# Altium schematic symbol library mcu.schlib: 18 symbols
Pins are listed as number, name and electrical type; pins without a type are passive.

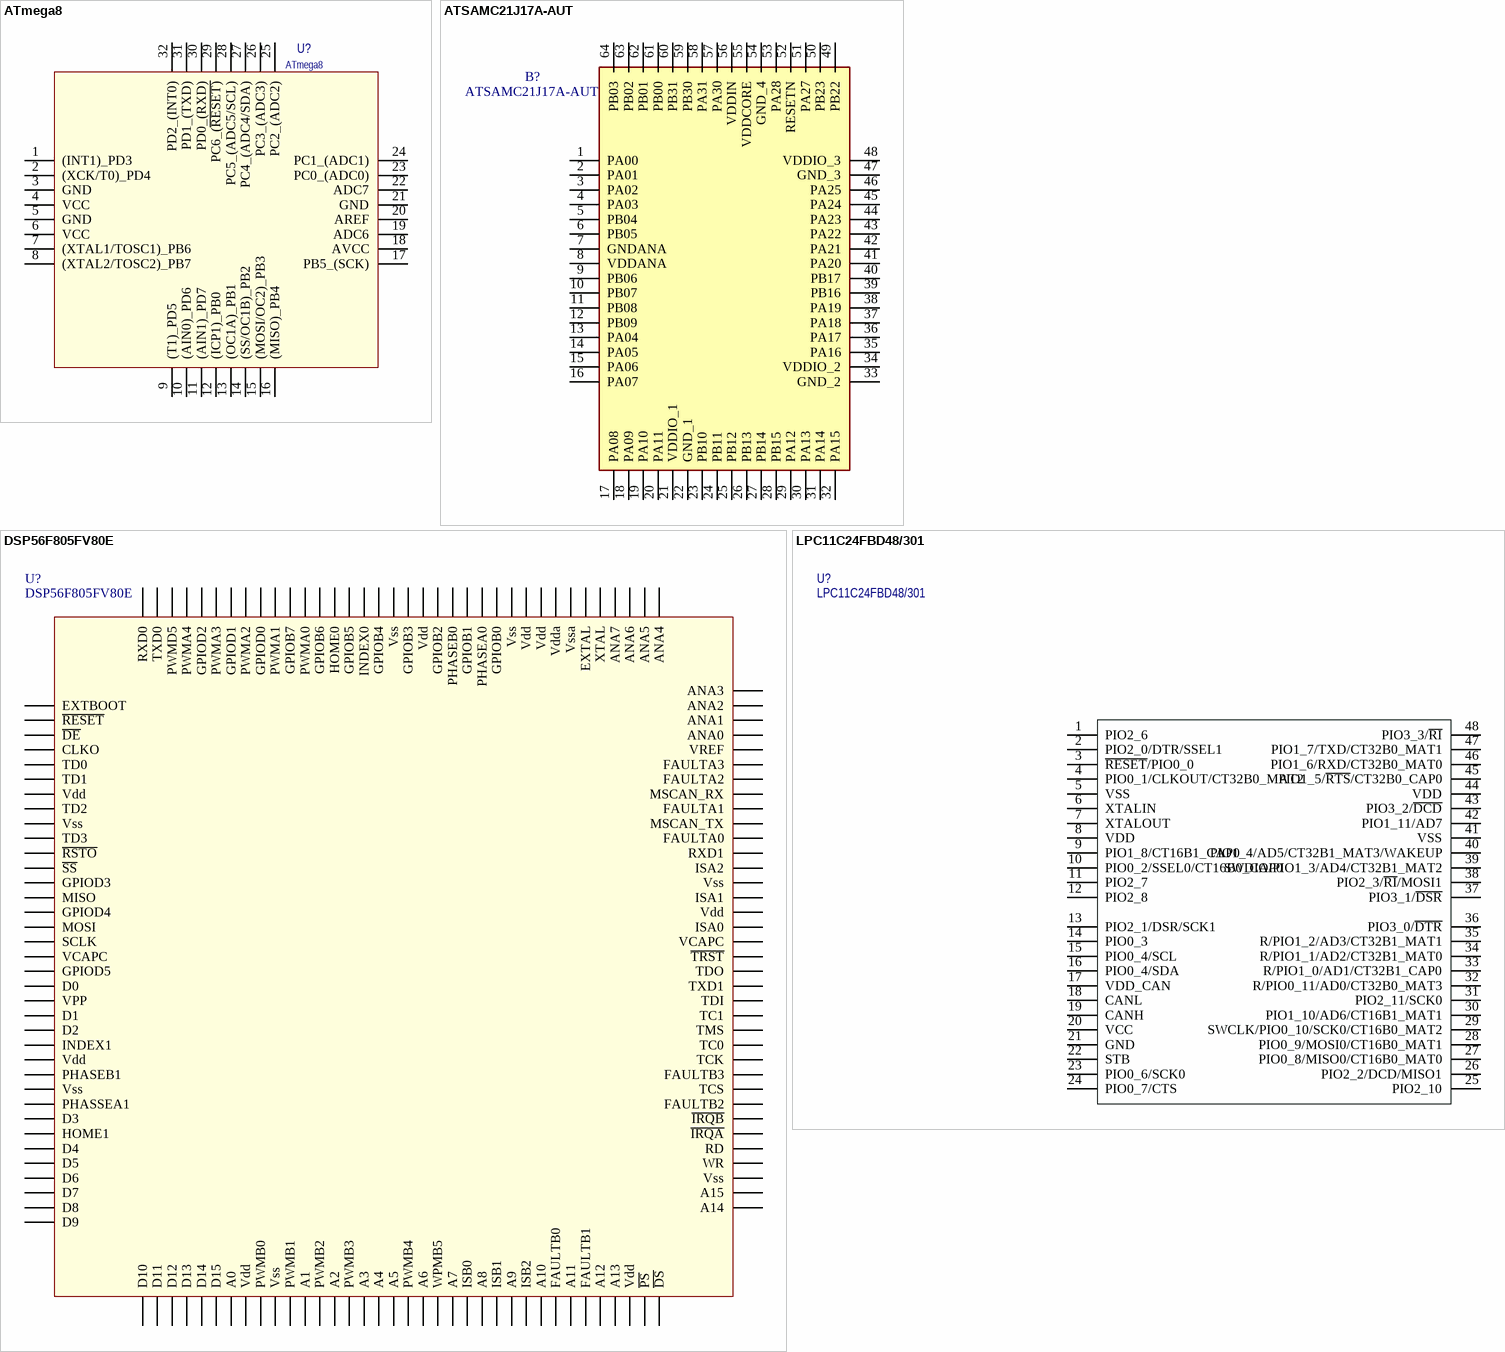
[diagram p0: symbols ATmega8 to LPC11C24FBD48/301]

## ATmega8
designator U?
Diode
footprint 32A (Thin QFP, 32-Leads, Body 7x7mm, Pitch 0.8mm, IPC Medium Density)
pins: 1 (INT1)_PD3, 2 (XCK/T0)_PD4, 3 GND, 4 VCC, 5 GND, 6 VCC, 7 (XTAL1/TOSC1)_PB6, 8 (XTAL2/TOSC2)_PB7, 9 (T1)_PD5, 10 (AIN0)_PD6, 11 (AIN1)_PD7, 12 (ICP1)_PB0, 13 (OC1A)_PB1, 14 (SS/OC1B)_PB2, 15 (MOSI/OC2)_PB3, 16 (MISO)_PB4, 17 PB5_(SCK), 18 AVCC, 19 ADC6, 20 AREF, 21 GND, 22 ADC7, 23 PC0_(ADC0), 24 PC1_(ADC1), 25 PC2_(ADC2), 26 PC3_(ADC3), 27 PC4_(ADC4/SDA), 28 PC5_(ADC5/SCL), 29 PC6_(~{RESET)}, 30 PD0_(RXD), 31 PD1_(TXD), 32 PD2_(INT0)

## ATSAMC21J17A-AUT
designator B?
ARM Microcontrollers - MCU 64TQFP,85C TEMP, GREEN, 5V, 48MHZ, T&R; Manufacturer_Name: Microchip; Geometry.Height: 1.2mm; Manufacturer_Part_Number: ATSAMC21J17A-AUT; Mouser Part Number: 556-ATSAMC21J17A-AUT; Arrow Part Number: ATSAMC21J17A-AUT
footprint QFP50P1200X1200X120-64N
pins: 1 PA00, 2 PA01, 3 PA02, 4 PA03, 5 PB04, 6 PB05, 7 GNDANA, 8 VDDANA, 9 PB06, 10 PB07, 11 PB08, 12 PB09, 13 PA04, 14 PA05, 15 PA06, 16 PA07, 17 PA08, 18 PA09, 19 PA10, 20 PA11, 21 VDDIO_1, 22 GND_1, 23 PB10, 24 PB11, 25 PB12, 26 PB13, 27 PB14, 28 PB15, 29 PA12, 30 PA13, 31 PA14, 32 PA15, 33 GND_2, 34 VDDIO_2, 35 PA16, 36 PA17, 37 PA18, 38 PA19, 39 PB16, 40 PB17, 41 PA20, 42 PA21, 43 PA22, 44 PA23, 45 PA24, 46 PA25, 47 GND_3, 48 VDDIO_3, 49 PB22, 50 PB23, 51 PA27, 52 RESETN, 53 PA28, 54 GND_4, 55 VDDCORE, 56 VDDIN, 57 PA30, 58 PA31, 59 PB30, 60 PB31, 61 PB00, 62 PB01, 63 PB02, 64 PB03

## DSP56F805FV80E
designator U?
16-bit Digital Signal Controllers
footprint LQFP144
pins: 1 D10, 2 D11, 3 D12, 4 D13, 5 D14, 6 D15, 7 A0, 8 Vdd, 9 PWMB0, 10 Vss, 11 PWMB1, 12 A1, 13 PWMB2, 14 A2, 15 PWMB3, 16 A3, 17 A4, 18 A5, 19 PWMB4, 20 A6, 21 WPMB5, 22 A7, 23 ISB0, 24 A8, 25 ISB1, 26 A9, 27 ISB2, 28 A10, 29 FAULTB0, 30 A11, 31 FAULTB1, 32 A12, 33 A13, 34 Vdd, 35 ~{PS}, 36 ~{DS}, 37 A14, 38 A15, 39 Vss, 40 WR, 41 RD, 42 ~{IRQA}, 43 ~{IRQB}, 44 FAULTB2, 45 TCS, 46 FAULTB3, 47 TCK, 48 TC0, 49 TMS, 50 TC1, 51 TDI, 52 TXD1, 53 TDO, 54 ~{TRST}, 55 VCAPC, 56 ISA0, 57 Vdd, 58 ISA1, 59 Vss, 60 ISA2, 61 RXD1, 62 FAULTA0, 63 MSCAN_TX, 64 FAULTA1, 65 MSCAN_RX, 66 FAULTA2, 67 FAULTA3, 68 VREF, 69 ANA0, 70 ANA1, 71 ANA2, 72 ANA3, 73 ANA4, 74 ANA5, 75 ANA6, 76 ANA7, 77 XTAL, 78 EXTAL, 79 Vssa, 80 Vdda, 81 Vdd, 82 Vdd, 83 Vss, 84 GPIOB0, 85 PHASEA0, 86 GPIOB1, 87 PHASEB0, 88 GPIOB2, 89 Vdd, 90 GPIOB3, 91 Vss, 92 GPIOB4, 93 INDEX0, 94 GPIOB5, 95 HOME0, 96 GPIOB6, 97 PWMA0, 98 GPIOB7, 99 PWMA1, 100 GPIOD0, 101 PWMA2, 102 GPIOD1, 103 PWMA3, 104 GPIOD2, 105 PWMA4, 106 PWMD5, 107 TXD0, 108 RXD0, 109 EXTBOOT, 110 ~{RESET}, 111 ~{DE}, 112 CLKO, 113 TD0, 114 TD1, 115 Vdd, 116 TD2, 117 Vss, 118 TD3, 119 ~{RSTO}, 120 ~{SS}, 121 GPIOD3, 122 MISO, 123 GPIOD4, 124 MOSI, 125 SCLK, 126 VCAPC, 127 GPIOD5, 128 D0, 129 VPP, 130 D1, 131 D2, 132 INDEX1, 133 Vdd, 134 PHASEB1, 135 Vss, 136 PHASSEA1, 137 D3, 138 HOME1, 139 D4, 140 D5, 141 D6, 142 D7, 143 D8, 144 D9

## LPC11C24FBD48/301
designator U?
LPC MCU; Part: LPC11C24FBD48/301
pins: 1 PIO2_6, 2 PIO2_0/DTR/SSEL1, 3 ~{RESET}/PIO0_0, 4 PIO0_1/CLKOUT/CT32B0_MAT2, 5 VSS, 6 XTALIN, 7 XTALOUT, 8 VDD, 9 PIO1_8/CT16B1_CAP0, 10 PIO0_2/SSEL0/CT16B0_CAP0, 11 PIO2_7, 12 PIO2_8, 13 PIO2_1/DSR/SCK1, 14 PIO0_3, 15 PIO0_4/SCL, 16 PIO0_4/SDA, 17 VDD_CAN, 18 CANL, 19 CANH, 20 VCC, 21 GND, 22 STB, 23 PIO0_6/SCK0, 24 PIO0_7/CTS, 25 PIO2_10, 26 PIO2_2/DCD/MISO1, 27 PIO0_8/MISO0/CT16B0_MAT0, 28 PIO0_9/MOSI0/CT16B0_MAT1, 29 SWCLK/PIO0_10/SCK0/CT16B0_MAT2, 30 PIO1_10/AD6/CT16B1_MAT1, 31 PIO2_11/SCK0, 32 R/PIO0_11/AD0/CT32B0_MAT3, 33 R/PIO1_0/AD1/CT32B1_CAP0, 34 R/PIO1_1/AD2/CT32B1_MAT0, 35 R/PIO1_2/AD3/CT32B1_MAT1, 36 PIO3_0/~{DTR}, 37 PIO3_1/~{DSR}, 38 PIO2_3/~{RI}/MOSI1, 39 SWDIO/PIO1_3/AD4/CT32B1_MAT2, 40 PIO1_4/AD5/CT32B1_MAT3/WAKEUP, 41 VSS, 42 PIO1_11/AD7, 43 PIO3_2/~{DCD}, 44 VDD, 45 PIO1_5/~{RTS}/CT32B0_CAP0, 46 PIO1_6/RXD/CT32B0_MAT0, 47 PIO1_7/TXD/CT32B0_MAT1, 48 PIO3_3/~{RI}

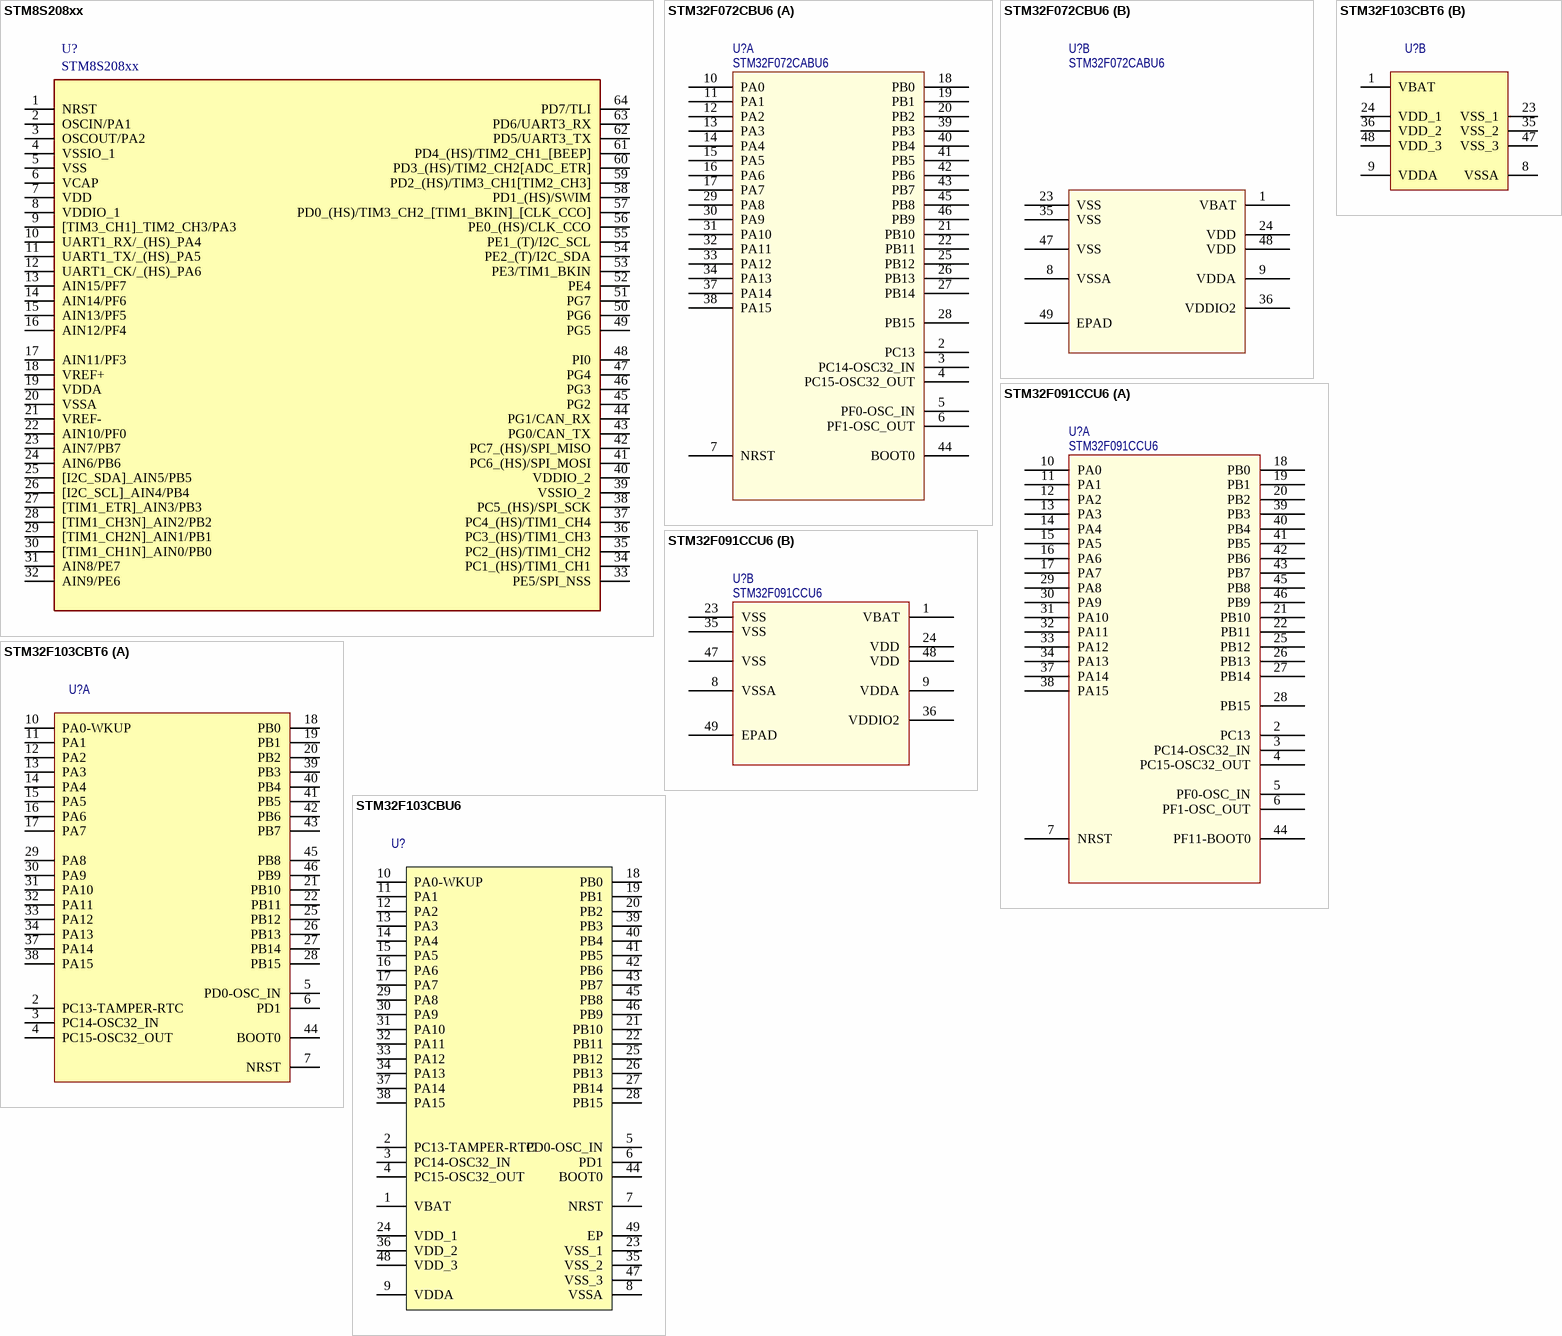
[diagram p1: symbols STM8S208xx to STM32F103CBU6]

## STM8S208xx
designator U?
footprint LQFP64 (Thin QFP, 64-Leads, Body 10x10mm, Pitch 0.5mm, IPC Low Density)
pins: 1 NRST, 2 OSCIN/PA1, 3 OSCOUT/PA2, 4 VSSIO_1, 5 VSS, 6 VCAP, 7 VDD, 8 VDDIO_1, 9 [TIM3_CH1]_TIM2_CH3/PA3, 10 UART1_RX/_(HS)_PA4, 11 UART1_TX/_(HS)_PA5, 12 UART1_CK/_(HS)_PA6, 13 AIN15/PF7, 14 AIN14/PF6, 15 AIN13/PF5, 16 AIN12/PF4, 17 AIN11/PF3, 18 VREF+, 19 VDDA, 20 VSSA, 21 VREF-, 22 AIN10/PF0, 23 AIN7/PB7, 24 AIN6/PB6, 25 [I2C_SDA]_AIN5/PB5, 26 [I2C_SCL]_AIN4/PB4, 27 [TIM1_ETR]_AIN3/PB3, 28 [TIM1_CH3N]_AIN2/PB2, 29 [TIM1_CH2N]_AIN1/PB1, 30 [TIM1_CH1N]_AIN0/PB0, 31 AIN8/PE7, 32 AIN9/PE6, 33 PE5/SPI_NSS, 34 PC1_(HS)/TIM1_CH1, 35 PC2_(HS)/TIM1_CH2, 36 PC3_(HS)/TIM1_CH3, 37 PC4_(HS)/TIM1_CH4, 38 PC5_(HS)/SPI_SCK, 39 VSSIO_2, 40 VDDIO_2, 41 PC6_(HS)/SPI_MOSI, 42 PC7_(HS)/SPI_MISO, 43 PG0/CAN_TX, 44 PG1/CAN_RX, 45 PG2, 46 PG3, 47 PG4, 48 PI0, 49 PG5, 50 PG6, 51 PG7, 52 PE4, 53 PE3/TIM1_BKIN, 54 PE2_(T)/I2C_SDA, 55 PE1_(T)/I2C_SCL, 56 PE0_(HS)/CLK_CCO, 57 PD0_(HS)/TIM3_CH2_[TIM1_BKIN]_[CLK_CCO], 58 PD1_(HS)/SWIM, 59 PD2_(HS)/TIM3_CH1[TIM2_CH3], 60 PD3_(HS)/TIM2_CH2[ADC_ETR], 61 PD4_(HS)/TIM2_CH1_[BEEP], 62 PD5/UART3_TX, 63 PD6/UART3_RX, 64 PD7/TLI

## STM32F072CBU6
designator U?, comment STM32F072CABU6
Mfr_Name: STMicroelectronics; Manufacturer_Part_Number: STM32F072CBU6; Copyright: Copyright (C) 2021 Ultra Librarian. All rights reserved.; RefDes: RefDes; Type: DEV
footprint UFQFPN48-7x7mm
part A pins: 2 PC13, 3 PC14-OSC32_IN, 4 PC15-OSC32_OUT, 5 PF0-OSC_IN, 6 PF1-OSC_OUT, 7 NRST, 10 PA0, 11 PA1, 12 PA2, 13 PA3, 14 PA4, 15 PA5, 16 PA6, 17 PA7, 18 PB0, 19 PB1, 20 PB2, 21 PB10, 22 PB11, 25 PB12, 26 PB13, 27 PB14, 28 PB15, 29 PA8, 30 PA9, 31 PA10, 32 PA11, 33 PA12, 34 PA13, 37 PA14, 38 PA15, 39 PB3, 40 PB4, 41 PB5, 42 PB6, 43 PB7, 44 BOOT0, 45 PB8, 46 PB9
part B pins: 1 VBAT (power), 8 VSSA (power), 9 VDDA (power), 23 VSS (power), 24 VDD (power), 35 VSS (power), 36 VDDIO2 (power), 47 VSS (power), 48 VDD (power), 49 EPAD

## STM32F091CCU6
designator U?
No Description Available; Mfr_Name: STMicroelectronics; Copyright: Copyright (C) 2022 Ultra Librarian. All rights reserved.; Manufacturer_Part_Number: STM32F091CCU6; RefDes: RefDes; Type: DEV
footprint UFQFPN48-7x7mm
part A pins: 2 PC13, 3 PC14-OSC32_IN, 4 PC15-OSC32_OUT, 5 PF0-OSC_IN, 6 PF1-OSC_OUT, 7 NRST, 10 PA0, 11 PA1, 12 PA2, 13 PA3, 14 PA4, 15 PA5, 16 PA6, 17 PA7, 18 PB0, 19 PB1, 20 PB2, 21 PB10, 22 PB11, 25 PB12, 26 PB13, 27 PB14, 28 PB15, 29 PA8, 30 PA9, 31 PA10, 32 PA11, 33 PA12, 34 PA13, 37 PA14, 38 PA15, 39 PB3, 40 PB4, 41 PB5, 42 PB6, 43 PB7, 44 PF11-BOOT0, 45 PB8, 46 PB9
part B pins: 1 VBAT (power), 8 VSSA (power), 9 VDDA (power), 23 VSS (power), 24 VDD (power), 35 VSS (power), 36 VDDIO2 (power), 47 VSS (power), 48 VDD (power), 49 EPAD

## STM32F103CBT6
designator U?
STM32 ARM-based 32-bit MCU Performance Line with 128 kB Flash, 20 kB Internal RAM, -40 to +85°C Temperature, 48-Pin LQFP, Tray; Part: STM32F103CBT6; DatasheetVersion: rev13.0, Apr-2011; PackageVersion: rev13, Apr-2011; PackageReference: LQFP48; PackageDescription: 48-Pin Low-Profile Quad Flat Pack, 7 x 7 mm Body, 0.5 mm Pitch (LQFP48); ComponentLink1Description: Manufacturer URL; ComponentLink1URL: http://www.st.com/; ComponentLink2Description: STM32F103 Datasheet; ComponentLink2URL: http://www.st.com/internet/com/TECHNICAL_RESOURCES/TECHNICAL_LITERATURE/DATASHEET/CD00161566.pdf; ComponentLink3Description: STM32 Family Web Page; ComponentLink3URL: www.st.com/stm32
footprint LQFP48_N (Thin QFP, 48-Leads, Body 7x7mm, Pitch 0.5mm, IPC Medium Density)
footprint LQFP48_L (Thin QFP, 48-Leads, Body 7x7mm, Pitch 0.5mm, IPC High Density)
footprint LQFP48_M (Thin QFP, 48-Leads, Body 7x7mm, Pitch 0.5mm, IPC Low Density)
part A pins: 2 PC13-TAMPER-RTC, 3 PC14-OSC32_IN, 4 PC15-OSC32_OUT, 5 PD0-OSC_IN, 6 PD1, 7 NRST, 10 PA0-WKUP, 11 PA1, 12 PA2, 13 PA3, 14 PA4, 15 PA5, 16 PA6, 17 PA7, 18 PB0, 19 PB1, 20 PB2, 21 PB10, 22 PB11, 25 PB12, 26 PB13, 27 PB14, 28 PB15, 29 PA8, 30 PA9, 31 PA10, 32 PA11, 33 PA12, 34 PA13, 37 PA14, 38 PA15, 39 PB3, 40 PB4, 41 PB5, 42 PB6, 43 PB7, 44 BOOT0, 45 PB8, 46 PB9
part B pins: 1 VBAT (power), 8 VSSA (power), 9 VDDA (power), 23 VSS_1 (power), 24 VDD_1 (power), 35 VSS_2 (power), 36 VDD_2 (power), 47 VSS_3 (power), 48 VDD_3 (power)

## STM32F103CBU6
designator U?
STM32 ARM-based 32-bit MCU Performance Line with 128 kB Flash, 20 kB Internal RAM, -40 to +85°C Temperature, 48-Pin VFQFPN, Tray; DatasheetVersion: rev13.0, Apr-2011; PackageVersion: 2011; PackageReference: VFQFPN48; PackageDescription: 48-Pin Quad Flat No-Lead, 7 x 7 x 0.9 mm Body, 0.5 mm Pitch, Exposed Pad; ComponentLink1Description: Manufacturer URL; ComponentLink1URL: http://www.st.com/; ComponentLink2Description: STM32F103 Datasheet; ComponentLink2URL: http://www.st.com/internet/com/TECHNICAL_RESOURCES/TECHNICAL_LITERATURE/DATASHEET/CD00161566.pdf; ComponentLink3Description: STM32 Family Web Page; ComponentLink3URL: www.st.com/stm32
footprint VFQFPN48_N (QFN, 48-Leads, Body 7x7mm, Pitch 0.5mm, Thermal Pad 5.3x5.3mm, IPC Medium Density)
footprint VFQFPN48_L (QFN, 48-Leads, Body 7x7mm, Pitch 0.5mm, Thermal Pad 5.3x5.3mm, IPC High Density)
footprint VFQFPN48_M (QFN, 48-Leads, Body 7x7mm, Pitch 0.5mm, Thermal Pad 5.3x5.3mm, IPC Low Density)
pins: 1 VBAT, 2 PC13-TAMPER-RTC, 3 PC14-OSC32_IN, 4 PC15-OSC32_OUT, 5 PD0-OSC_IN, 6 PD1, 7 NRST, 8 VSSA, 9 VDDA, 10 PA0-WKUP, 11 PA1, 12 PA2, 13 PA3, 14 PA4, 15 PA5, 16 PA6, 17 PA7, 18 PB0, 19 PB1, 20 PB2, 21 PB10, 22 PB11, 23 VSS_1, 24 VDD_1, 25 PB12, 26 PB13, 27 PB14, 28 PB15, 29 PA8, 30 PA9, 31 PA10, 32 PA11, 33 PA12, 34 PA13, 35 VSS_2, 36 VDD_2, 37 PA14, 38 PA15, 39 PB3, 40 PB4, 41 PB5, 42 PB6, 43 PB7, 44 BOOT0, 45 PB8, 46 PB9, 47 VSS_3, 48 VDD_3, 49 EP

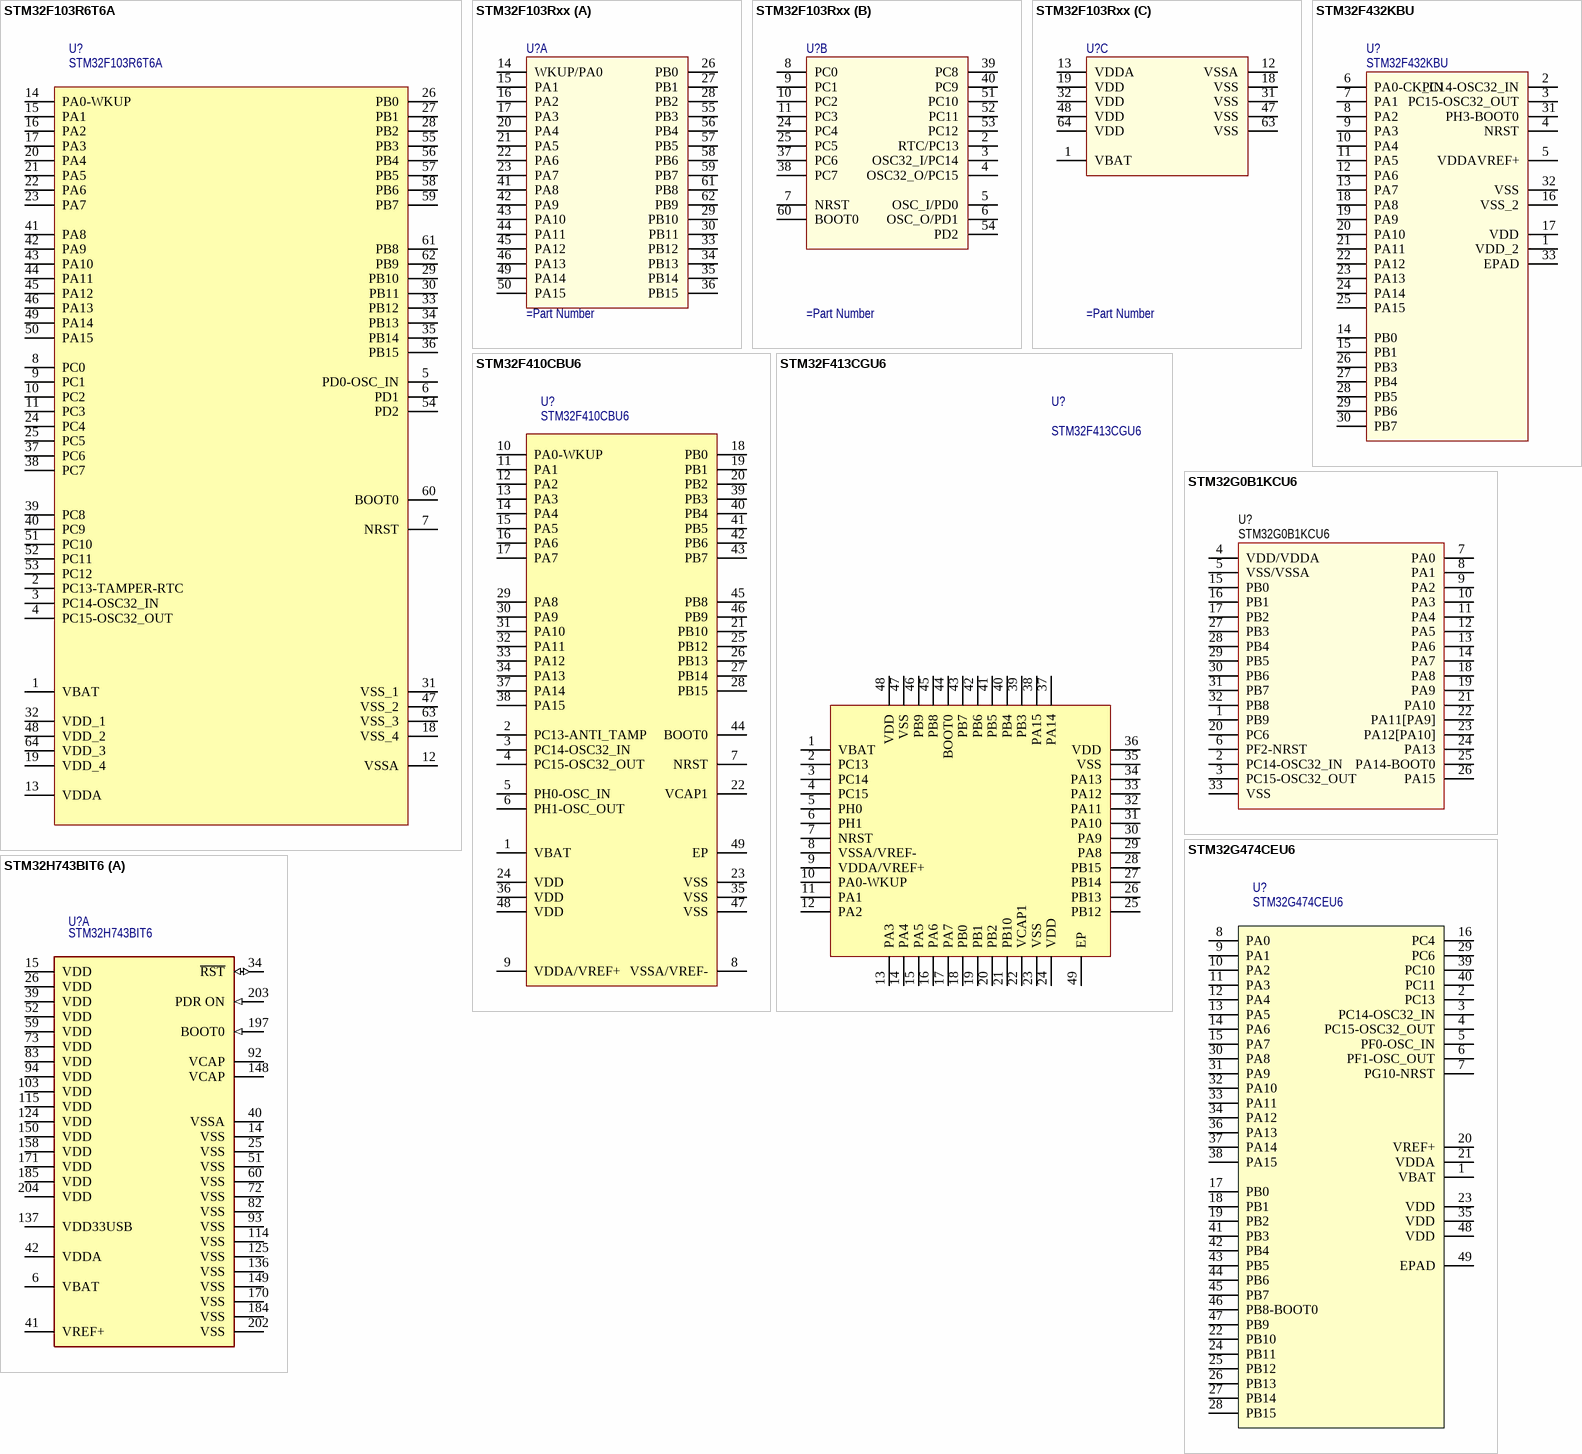
[diagram p2: symbols STM32F103R6T6A to STM32H743BIT6]

## STM32F103R6T6A
designator U?
STM32 ARM-based 32-bit MCU Performance Line with 32 kB Flash, 10 kB Internal RAM, Internal Code A, -40 to +85°C Temperature, 64-Pin LQFP, Tray; DatasheetVersion: rev5.0, Apr-2011; PackageVersion: rev13, Apr-2011; PackageReference: LQFP64; PackageDescription: 64-Pin Low-Profile Quad Flat Pack, 10 x 10 mm Body, 0.5 mm Pitch (LQFP64); ComponentLink1Description: Manufacturer URL; ComponentLink1URL: http://www.st.com/; ComponentLink2Description: STM32F103 Datasheet; ComponentLink2URL: http://www.st.com/internet/com/TECHNICAL_RESOURCES/TECHNICAL_LITERATURE/DATASHEET/CD00210843.pdf; ComponentLink3Description: STM32 Family Web Page; ComponentLink3URL: www.st.com/stm32
footprint LQFP64_M (Thin QFP, 64-Leads, Body 10x10mm, Pitch 0.5mm, IPC Low Density)
footprint LQFP64_L (Thin QFP, 64-Leads, Body 10x10mm, Pitch 0.5mm, IPC High Density)
footprint LQFP64_M (Thin QFP, 64-Leads, Body 10x10mm, Pitch 0.5mm, IPC Low Density)
pins: 1 VBAT, 2 PC13-TAMPER-RTC, 3 PC14-OSC32_IN, 4 PC15-OSC32_OUT, 5 PD0-OSC_IN, 6 PD1, 7 NRST, 8 PC0, 9 PC1, 10 PC2, 11 PC3, 12 VSSA, 13 VDDA, 14 PA0-WKUP, 15 PA1, 16 PA2, 17 PA3, 18 VSS_4, 19 VDD_4, 20 PA4, 21 PA5, 22 PA6, 23 PA7, 24 PC4, 25 PC5, 26 PB0, 27 PB1, 28 PB2, 29 PB10, 30 PB11, 31 VSS_1, 32 VDD_1, 33 PB12, 34 PB13, 35 PB14, 36 PB15, 37 PC6, 38 PC7, 39 PC8, 40 PC9, 41 PA8, 42 PA9, 43 PA10, 44 PA11, 45 PA12, 46 PA13, 47 VSS_2, 48 VDD_2, 49 PA14, 50 PA15, 51 PC10, 52 PC11, 53 PC12, 54 PD2, 55 PB3, 56 PB4, 57 PB5, 58 PB6, 59 PB7, 60 BOOT0, 61 PB8, 62 PB9, 63 VSS_3, 64 VDD_3

## STM32F103Rxx
designator U?
High-density performance line Arm®-based 32-bit MCU with 256 to 512KB / Flash, USB, CAN, 11 timers, 3 ADCs, 13 communication interfaces; Part: STM32F103RET6
footprint LQFP64
part A pins: 14 WKUP/PA0 "USART2_CTS,  USART4_TX  RTC_ TAMP2,  WKUP1, ADC_IN0,", 15 PA1 "USART2_RTS,  TIM15_CH1N,  USART4_RX, EVENTOUT  ADC_IN1", 16 PA2 "USART2_TX, TIM15_CH1 ADC_IN2, WKUP4", 17 PA3 "USART2_RX, TIM15_CH2 ADC_IN3", 20 PA4 "SPI1_NSS, TIM14_CH1,  USART2_CK,  USB_NOE(3)  ADC_IN4", 21 PA5 "SPI1_SCK ADC_IN5", 22 PA6 "SPI1_MISO, TIM3_CH1,  TIM1_BKIN,  TIM16_CH1, EVENTOUT,  USART3_CTS  ADC_IN6", 23 PA7 "SPI1_MOSI, TIM3_CH2,  TIM14_CH1,  TIM1_CH1N, TIM17_CH1,  EVENTOUT  ADC_IN7", 26 PB0 "TIM3_CH3, TIM1_CH2N,  EVENTOUT,  USART3_CK  ADC_IN8", 27 PB1 "TIM3_CH4,  USART3_RTS,  TIM14_CH1, TIM1_CH3N  ADC_IN9", 28 PB2, 29 PB10 "SPI2_SCK, USART3_TX", 30 PB11 "USART3_RX,  EVENTOUT, I2C2_SDA", 33 PB12 "TIM1_BKIN, TIM15_BKIN,  SPI2_NSS, EVENTOUT,  USART3_CK", 34 PB13 "SPI2_SCK, I2C2_SCL,  TIM1_CH1N,  USART3_CTS", 35 PB14 "SPI2_MISO, I2C2_SDA,  TIM1_CH2N, TIM15_CH1,  USART3_RTS", 36 PB15 "SPI2_MOSI, TIM1_CH3N,  TIM15_CH1N,  TIM15_CH2  WKUP7,  RTC_REFIN", 41 PA8 "USART1_CK, TIM1_CH1,  EVENTOUT, MCO", 42 PA9 "USART1_TX, TIM1_CH2,  TIM15_BKIN,  I2C1_SCL", 43 PA10 "USART1_RX, TIM1_CH3,  TIM17_BKIN,  I2C1_SDA", 44 PA11 "USART1_CTS,  TIM1_CH4, EVENTOUT USB_DM", 45 PA12 "USART1_RTS,  TIM1_ETR, EVENTOUT USB_DP", 46 PA13 "IR_OUT, SWDIO,  USB_NOE", 49 PA14 "USART2_TX, SWCLK", 50 PA15 "SPI1_NSS, USART2_RX,  USART4_RTS,  EVENTOUT", 55 PB3 "SPI1_SCK, EVENTOUT", 56 PB4 "SPI1_MISO, TIM17_BKIN,  TIM3_CH1, EVENTOUT", 57 PB5 "SPI1_MOSI, I2C1_SMBA,  TIM16_BKIN,  TIM3_CH2  WKUP6", 58 PB6 "I2C1_SCL, USART1_TX,  TIM16_CH1N", 59 PB7 "I2C1_SDA, USART1_RX,  USART4_CTS,  TIM17_C", 61 PB8 "I2C1_SCL, TIM16_CH1", 62 PB9 "SPI2_NSS, I2C1_SDA,  IR_OUT,  TIM17_CH1, EVENTOUT"
part B pins: 2 RTC/PC13 "WKUP2,  RTC_TAMP1,  RTC_TS,  RTC_OUT", 3 OSC32_I/PC14 "OSC32_IN", 4 OSC32_O/PC15 "OSC32_OU", 5 OSC_I/PD0 "I2C1_SDA, OSC_IN", 6 OSC_O/PD1 "I2C1_SCL, OSC_OUT", 7 NRST "Device reset input / internal reset output (active low)", 8 PC0, 9 PC1, 10 PC2, 11 PC3, 24 PC4, 25 PC5, 37 PC6, 38 PC7, 39 PC8, 40 PC9, 51 PC10, 52 PC11, 53 PC12, 54 PD2, 60 BOOT0 "Boot memory selection"
part C pins: 1 VBAT (power) "Analog power supply", 12 VSSA (power) "Analog ground", 13 VDDA (power) "Digital power supply", 18 VSS (power) "Graound", 19 VDD (power) "Digital power supply", 31 VSS (power) "Graound", 32 VDD (power) "Digital power supply", 47 VSS (power) "Ground", 48 VDD (power) "Digital power supply", 63 VSS (power) "Ground", 64 VDD (power) "Digital power supply"

## STM32F410CBU6
designator U?
MCU
footprint STM-UFQFPN48_M (QFN, 48-Leads, Body 7.1x7.1mm, Pitch 0.5mm, Thermal Pad 5.6x5.6mm, IPC Low Density)
pins: 1 VBAT, 2 PC13-ANTI_TAMP "PC13-ANTI_TAMP/TAMP_1", 3 PC14-OSC32_IN "PC14-OSC32_IN/OSC32_IN", 4 PC15-OSC32_OUT "PC15-OSC32_OUT/OSC32_OUT", 5 PH0-OSC_IN "PH0-OSC_IN/OSC_IN", 6 PH1-OSC_OUT "PH1-OSC_OUT/OSC_OUT", 7 NRST, 8 VSSA/VREF-, 9 VDDA/VREF+, 10 PA0-WKUP "PA0-WKUP/USART2_CTS,TIM2_CH1/TIM2_ETR,TIM5_CH1/ADC1_0,WKUP", 11 PA1 "PA1/USART2_RTS,TIM2_CH2,TIM5_CH2/ADC1_1", 12 PA2 "PA2/USART2_TX,TIM2_CH3,TIM5_CH3,TIM9_CH1/ADC1_2", 13 PA3 "PA3/USART2_RX,TIM2_CH4,TIM5_CH4,TIM9_CH2/ADC1_3", 14 PA4 "PA4/SPI1_NSS,SPI3_NSS/I2S3_WS,USART2_CK/ADC1_4", 15 PA5 "PA5/SPI1_SCK,TIM2_CH1/TIM2_ETR/ADC1_5", 16 PA6 "PA6/SPI1_MISO,TIM1_BKIN,TIM3_CH1/ADC1_6", 17 PA7 "PA7/SPI1_MOSI,TIM1_CH1N,TIM3_CH2/ADC1_7", 18 PB0 "PB0/TIM1_CH2N,TIM3_CH3/ADC1_8", 19 PB1 "PB1/TIM1_CH3N,TIM3_CH4/ADC1_9", 20 PB2, 21 PB10 "PB10/SPI2_SCK/I2S2_CK,I2C2_SCL,TIM2_CH3", 22 VCAP1, 23 VSS, 24 VDD, 25 PB12 "PB12/SPI2_NSS/I2S2_WS,I2C2_SMBAL,TIM1_BKIN", 26 PB13 "PB13/SPI2_SCK/I2S2_CK,TIM1_CH1N", 27 PB14 "PB14/SPI2_MISO,I2S2ext_SD,TIM1_CH2N", 28 PB15 "PB15/SPI2_MOSI/I2S2_SD,TIM1_CH3N,RTC_50Hz", 29 PA8 "PA8/I2C3_SCL,USART1_CK,TIM1_CH1,USB_FS_SOF,MCO_1", 30 PA9 "PA9/I2C3_SMBAL,USART1_TX,TIM1_CH2,USB_FS_VBUS", 31 PA10 "PA10/USART1_RX,TIM1_CH3,USB_FS_ID", 32 PA11 "PA11/USART1_CTS,USART6_TX,TIM1_CH4,USB_FS_DM", 33 PA12 "PA12/USART1_RTS,USART6_RX,TIM1_ETR,USB_FS_DP", 34 PA13 "PA13/JTMS-SWDIO", 35 VSS, 36 VDD, 37 PA14 "PA14/JTCK-SWCLK", 38 PA15 "PA15/SPI1_NSS,SPI3_NSS/I2S3_WS,TIM2_CH1/TIM2_ETR,JTDI", 39 PB3 "PB3/SPI1_SCK,SPI3_SCK/I2S3_CK,I2C2_SDA,TIM2_CH2,JTDO-SWO", 40 PB4 "PB4/SPI1_MISO,SPI3_MISO,I2S3ext_SD,I2C3_SDA,TIM3_CH1,JTRST", 41 PB5 "PB5/SPI1_MOSI,SPI3_MOSI/I2S3_SD,I2C1_SMBAL,TIM3_CH2", 42 PB6 "PB6/I2C1_SCL,USART1_TX,TIM4_CH1", 43 PB7 "PB7/I2C1_SDA,USART1_RX,TIM4_CH2", 44 BOOT0, 45 PB8 "PB8/I2C1_SCL,TIM4_CH3,TIM10_CH1,SDIO_D4", 46 PB9 "PB9/SPI2_NSS/I2S2_WS,I2C1_SDA,TIM4_CH4,TIM11_CH1,SDIO_D5", 47 VSS, 48 VDD, 49 EP

## STM32F413CGU6
designator U?
mcu
pins: 1 VBAT, 2 PC13 "PC13-ANTI_TAMP/TAMP_1", 3 PC14 "PC14-OSC32_IN/OSC32_IN", 4 PC15 "PC15-OSC32_OUT/OSC32_OUT", 5 PH0 "PH0-OSC_IN/OSC_IN", 6 PH1 "PH1-OSC_OUT/OSC_OUT", 7 NRST, 8 VSSA/VREF-, 9 VDDA/VREF+, 10 PA0-WKUP "PA0-WKUP/USART2_CTS,TIM2_CH1/TIM2_ETR,TIM5_CH1/ADC1_0,WKUP", 11 PA1 "PA1/USART2_RTS,TIM2_CH2,TIM5_CH2/ADC1_1", 12 PA2 "PA2/USART2_TX,TIM2_CH3,TIM5_CH3,TIM9_CH1/ADC1_2", 13 PA3 "PA3/USART2_RX,TIM2_CH4,TIM5_CH4,TIM9_CH2/ADC1_3", 14 PA4 "PA4/SPI1_NSS,SPI3_NSS/I2S3_WS,USART2_CK/ADC1_4", 15 PA5 "PA5/SPI1_SCK,TIM2_CH1/TIM2_ETR/ADC1_5", 16 PA6 "PA6/SPI1_MISO,TIM1_BKIN,TIM3_CH1/ADC1_6", 17 PA7 "PA7/SPI1_MOSI,TIM1_CH1N,TIM3_CH2/ADC1_7", 18 PB0 "PB0/TIM1_CH2N,TIM3_CH3/ADC1_8", 19 PB1 "PB1/TIM1_CH3N,TIM3_CH4/ADC1_9", 20 PB2, 21 PB10 "PB10/SPI2_SCK/I2S2_CK,I2C2_SCL,TIM2_CH3", 22 VCAP1, 23 VSS, 24 VDD, 25 PB12 "PB12/SPI2_NSS/I2S2_WS,I2C2_SMBAL,TIM1_BKIN", 26 PB13 "PB13/SPI2_SCK/I2S2_CK,TIM1_CH1N", 27 PB14 "PB14/SPI2_MISO,I2S2ext_SD,TIM1_CH2N", 28 PB15 "PB15/SPI2_MOSI/I2S2_SD,TIM1_CH3N,RTC_50Hz", 29 PA8 "PA8/I2C3_SCL,USART1_CK,TIM1_CH1,USB_FS_SOF,MCO_1", 30 PA9 "PA9/I2C3_SMBAL,USART1_TX,TIM1_CH2,USB_FS_VBUS", 31 PA10 "PA10/USART1_RX,TIM1_CH3,USB_FS_ID", 32 PA11 "PA11/USART1_CTS,USART6_TX,TIM1_CH4,USB_FS_DM", 33 PA12 "PA12/USART1_RTS,USART6_RX,TIM1_ETR,USB_FS_DP", 34 PA13 "PA13/JTMS-SWDIO", 35 VSS, 36 VDD, 37 PA14 "PA14/JTCK-SWCLK", 38 PA15 "PA15/SPI1_NSS,SPI3_NSS/I2S3_WS,TIM2_CH1/TIM2_ETR,JTDI", 39 PB3 "PB3/SPI1_SCK,SPI3_SCK/I2S3_CK,I2C2_SDA,TIM2_CH2,JTDO-SWO", 40 PB4 "PB4/SPI1_MISO,SPI3_MISO,I2S3ext_SD,I2C3_SDA,TIM3_CH1,JTRST", 41 PB5 "PB5/SPI1_MOSI,SPI3_MOSI/I2S3_SD,I2C1_SMBAL,TIM3_CH2", 42 PB6 "PB6/I2C1_SCL,USART1_TX,TIM4_CH1", 43 PB7 "PB7/I2C1_SDA,USART1_RX,TIM4_CH2", 44 BOOT0, 45 PB8 "PB8/I2C1_SCL,TIM4_CH3,TIM10_CH1,SDIO_D4", 46 PB9 "PB9/SPI2_NSS/I2S2_WS,I2C1_SDA,TIM4_CH4,TIM11_CH1,SDIO_D5", 47 VSS, 48 VDD, 49 EP

## STM32F432KBU
designator U?
footprint STM-UFQFPN32_N (QFN, 32-Leads, Body 5.1x5.1mm, Pitch 0.5mm, Thermal Pad 3.5x3.5mm, IPC Medium Density)
pins: 1 VDD_2 (power), 2 PC14-OSC32_IN, 3 PC15-OSC32_OUT, 4 NRST, 5 VDDAVREF+ (power), 6 PA0-CK_IN, 7 PA1, 8 PA2, 9 PA3, 10 PA4, 11 PA5, 12 PA6, 13 PA7, 14 PB0, 15 PB1, 16 VSS_2 (power), 17 VDD (power), 18 PA8, 19 PA9, 20 PA10, 21 PA11, 22 PA12, 23 PA13, 24 PA14, 25 PA15, 26 PB3, 27 PB4, 28 PB5, 29 PB6, 30 PB7, 31 PH3-BOOT0, 32 VSS (power), 33 EPAD

## STM32G0B1KCU6
designator U?
Manufacturer: ST(意法半导体); Add into BOM: yes; Part: STM32G0B1KCU6; JLCPCBPart: C5270237; LCSC Part Name: 主流Arm Cortex-M0+ 32位MCU，最高256KB闪存，144KB内存，6个USART，定时器，ADC，DAC，通信接口，1.7-3.6V; Supplier Part: C5270237; Manufacturer Part: STM32G0B1KCU6; Supplier Footprint: UFQFPN-32(5x5); JLCPCB Part Class: Extended Part; Supplier: LCSC; Convert to PCB: yes
footprint STM-UFQFPN32_N (QFN, 32-Leads, Body 5.1x5.1mm, Pitch 0.5mm, Thermal Pad 3.5x3.5mm, IPC Medium Density)
pins: 1 PB9, 2 PC14-OSC32_IN, 3 PC15-OSC32_OUT, 4 VDD/VDDA, 5 VSS/VSSA, 6 PF2-NRST, 7 PA0, 8 PA1, 9 PA2, 10 PA3, 11 PA4, 12 PA5, 13 PA6, 14 PA7, 15 PB0, 16 PB1, 17 PB2, 18 PA8, 19 PA9, 20 PC6, 21 PA10, 22 PA11[PA9], 23 PA12[PA10], 24 PA13, 25 PA14-BOOT0, 26 PA15, 27 PB3, 28 PB4, 29 PB5, 30 PB6, 31 PB7, 32 PB8, 33 VSS

## STM32G474CEU6
designator U?
MCU
footprint STM-UFQFPN48_M (QFN, 48-Leads, Body 7.1x7.1mm, Pitch 0.5mm, Thermal Pad 5.6x5.6mm, IPC Low Density)
pins: 1 VBAT, 2 PC13, 3 PC14-OSC32_IN, 4 PC15-OSC32_OUT, 5 PF0-OSC_IN, 6 PF1-OSC_OUT, 7 PG10-NRST, 8 PA0, 9 PA1, 10 PA2, 11 PA3, 12 PA4, 13 PA5, 14 PA6, 15 PA7, 16 PC4, 17 PB0, 18 PB1, 19 PB2, 20 VREF+, 21 VDDA, 22 PB10, 23 VDD, 24 PB11, 25 PB12, 26 PB13, 27 PB14, 28 PB15, 29 PC6, 30 PA8, 31 PA9, 32 PA10, 33 PA11, 34 PA12, 35 VDD, 36 PA13, 37 PA14, 38 PA15, 39 PC10, 40 PC11, 41 PB3, 42 PB4, 43 PB5, 44 PB6, 45 PB7, 46 PB8-BOOT0, 47 PB9, 48 VDD, 49 EPAD

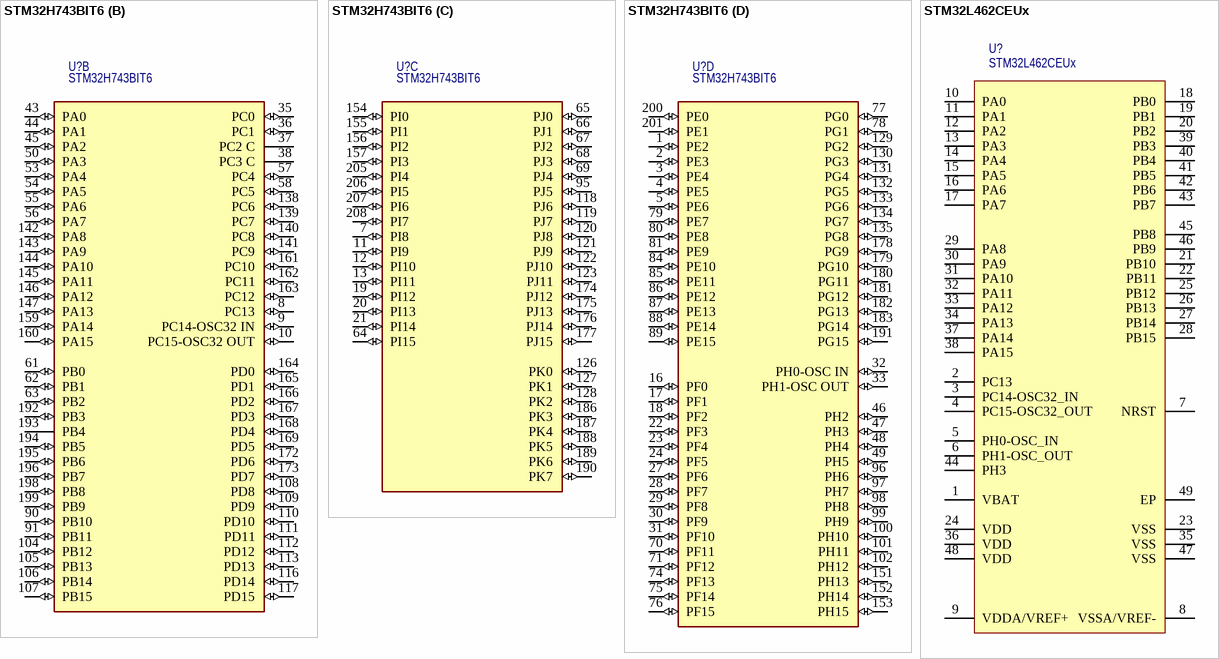
[diagram p3: symbols STM32H743BIT6 to STM32L462CEUx]

## STM32H743BIT6
designator U?
part A pins: 6 VBAT (power), 14 VSS (power), 15 VDD (power), 25 VSS (power), 26 VDD (power), 34 ~{RST} (io), 39 VDD (power), 40 VSSA (power), 41 VREF+ (power), 42 VDDA (power), 51 VSS (power), 52 VDD (power), 59 VDD (power), 60 VSS (power), 72 VSS (power), 73 VDD (power), 82 VSS (power), 83 VDD (power), 92 VCAP (power), 93 VSS (power), 94 VDD (power), 103 VDD (power), 114 VSS (power), 115 VDD (power), 124 VDD (power), 125 VSS (power), 136 VSS (power), 137 VDD33USB (power), 148 VCAP (power), 149 VSS (power), 150 VDD (power), 158 VDD (power), 170 VSS (power), 171 VDD (power), 184 VSS (power), 185 VDD (power), 197 BOOT0 (in), 202 VSS (power), 203 PDR ON (in), 204 VDD (power)
part B pins: 8 PC13 (io), 9 PC14-OSC32 IN (io), 10 PC15-OSC32 OUT (io), 35 PC0 (io), 36 PC1 (io), 37 PC2 C, 38 PC3 C, 43 PA0 (io), 44 PA1 (io), 45 PA2 (io), 50 PA3 (io), 53 PA4 (io), 54 PA5 (io), 55 PA6 (io), 56 PA7 (io), 57 PC4 (io), 58 PC5 (io), 61 PB0 (io), 62 PB1 (io), 63 PB2 (io), 90 PB10 (io), 91 PB11 (io), 104 PB12 (io), 105 PB13 (io), 106 PB14 (io), 107 PB15 (io), 108 PD8 (io), 109 PD9 (io), 110 PD10 (io), 111 PD11 (io), 112 PD12 (io), 113 PD13 (io), 116 PD14 (io), 117 PD15 (io), 138 PC6 (io), 139 PC7 (io), 140 PC8 (io), 141 PC9 (io), 142 PA8 (io), 143 PA9 (io), 144 PA10 (io), 145 PA11 (io), 146 PA12 (io), 147 PA13 (io), 159 PA14 (io), 160 PA15 (io), 161 PC10 (io), 162 PC11 (io), 163 PC12 (io), 164 PD0 (io), 165 PD1 (io), 166 PD2 (io), 167 PD3 (io), 168 PD4 (io), 169 PD5 (io), 172 PD6 (io), 173 PD7 (io), 192 PB3 (io), 193 PB4 (power), 194 PB5 (io), 195 PB6 (io), 196 PB7 (io), 198 PB8 (io), 199 PB9 (io)
part C pins: 7 PI8 (io), 11 PI9 (io), 12 PI10 (io), 13 PI11 (io), 19 PI12 (io), 20 PI13 (io), 21 PI14 (io), 64 PI15 (io), 65 PJ0 (io), 66 PJ1 (io), 67 PJ2 (io), 68 PJ3 (io), 69 PJ4 (io), 95 PJ5 (io), 118 PJ6 (io), 119 PJ7 (io), 120 PJ8 (io), 121 PJ9 (io), 122 PJ10 (io), 123 PJ11 (io), 126 PK0 (io), 127 PK1 (io), 128 PK2 (io), 154 PI0 (io), 155 PI1 (io), 156 PI2 (io), 157 PI3 (io), 174 PJ12 (io), 175 PJ13 (io), 176 PJ14 (io), 177 PJ15 (io), 186 PK3 (io), 187 PK4 (io), 188 PK5 (io), 189 PK6 (io), 190 PK7 (io), 205 PI4 (io), 206 PI5 (io), 207 PI6 (io), 208 PI7 (io)
part D pins: 1 PE2 (io), 2 PE3 (io), 3 PE4 (io), 4 PE5 (io), 5 PE6 (io), 16 PF0 (io), 17 PF1 (io), 18 PF2 (io), 22 PF3 (io), 23 PF4 (io), 24 PF5 (io), 27 PF6 (io), 28 PF7 (io), 29 PF8 (io), 30 PF9 (io), 31 PF10 (io), 32 PH0-OSC IN (io), 33 PH1-OSC OUT (io), 46 PH2 (io), 47 PH3 (io), 48 PH4 (io), 49 PH5 (io), 70 PF11 (io), 71 PF12 (io), 74 PF13 (io), 75 PF14 (io), 76 PF15 (io), 77 PG0 (io), 78 PG1 (io), 79 PE7 (io), 80 PE8 (io), 81 PE9 (io), 84 PE10 (io), 85 PE11 (io), 86 PE12 (io), 87 PE13 (io), 88 PE14 (io), 89 PE15 (io), 96 PH6 (io), 97 PH7 (io), 98 PH8 (io), 99 PH9 (io), 100 PH10 (io), 101 PH11 (io), 102 PH12 (io), 129 PG2 (io), 130 PG3 (io), 131 PG4 (io), 132 PG5 (io), 133 PG6 (io), 134 PG7 (io), 135 PG8 (io), 151 PH13 (io), 152 PH14 (io), 153 PH15 (io), 178 PG9 (io), 179 PG10 (io), 180 PG11 (io), 181 PG12 (io), 182 PG13 (io), 183 PG14 (io), 191 PG15 (io), 200 PE0 (io), 201 PE1 (io)

## STM32L462CEUx
designator U?
MCU
footprint STM-UFQFPN48_M (QFN, 48-Leads, Body 7.1x7.1mm, Pitch 0.5mm, Thermal Pad 5.6x5.6mm, IPC Low Density)
pins: 1 VBAT, 2 PC13 "PC13-ANTI_TAMP/TAMP_1", 3 PC14-OSC32_IN "PC14-OSC32_IN/OSC32_IN", 4 PC15-OSC32_OUT "PC15-OSC32_OUT/OSC32_OUT", 5 PH0-OSC_IN "PH0-OSC_IN/OSC_IN", 6 PH1-OSC_OUT "PH1-OSC_OUT/OSC_OUT", 7 NRST, 8 VSSA/VREF-, 9 VDDA/VREF+, 10 PA0 "PA0-WKUP/USART2_CTS,TIM2_CH1/TIM2_ETR,TIM5_CH1/ADC1_0,WKUP", 11 PA1 "PA1/USART2_RTS,TIM2_CH2,TIM5_CH2/ADC1_1", 12 PA2 "PA2/USART2_TX,TIM2_CH3,TIM5_CH3,TIM9_CH1/ADC1_2", 13 PA3 "PA3/USART2_RX,TIM2_CH4,TIM5_CH4,TIM9_CH2/ADC1_3", 14 PA4 "PA4/SPI1_NSS,SPI3_NSS/I2S3_WS,USART2_CK/ADC1_4", 15 PA5 "PA5/SPI1_SCK,TIM2_CH1/TIM2_ETR/ADC1_5", 16 PA6 "PA6/SPI1_MISO,TIM1_BKIN,TIM3_CH1/ADC1_6", 17 PA7 "PA7/SPI1_MOSI,TIM1_CH1N,TIM3_CH2/ADC1_7", 18 PB0 "PB0/TIM1_CH2N,TIM3_CH3/ADC1_8", 19 PB1 "PB1/TIM1_CH3N,TIM3_CH4/ADC1_9", 20 PB2, 21 PB10 "PB10/SPI2_SCK/I2S2_CK,I2C2_SCL,TIM2_CH3", 22 PB11, 23 VSS, 24 VDD, 25 PB12 "PB12/SPI2_NSS/I2S2_WS,I2C2_SMBAL,TIM1_BKIN", 26 PB13 "PB13/SPI2_SCK/I2S2_CK,TIM1_CH1N", 27 PB14 "PB14/SPI2_MISO,I2S2ext_SD,TIM1_CH2N", 28 PB15 "PB15/SPI2_MOSI/I2S2_SD,TIM1_CH3N,RTC_50Hz", 29 PA8 "PA8/I2C3_SCL,USART1_CK,TIM1_CH1,USB_FS_SOF,MCO_1", 30 PA9 "PA9/I2C3_SMBAL,USART1_TX,TIM1_CH2,USB_FS_VBUS", 31 PA10 "PA10/USART1_RX,TIM1_CH3,USB_FS_ID", 32 PA11 "PA11/USART1_CTS,USART6_TX,TIM1_CH4,USB_FS_DM", 33 PA12 "PA12/USART1_RTS,USART6_RX,TIM1_ETR,USB_FS_DP", 34 PA13 "PA13/JTMS-SWDIO", 35 VSS, 36 VDD, 37 PA14 "PA14/JTCK-SWCLK", 38 PA15 "PA15/SPI1_NSS,SPI3_NSS/I2S3_WS,TIM2_CH1/TIM2_ETR,JTDI", 39 PB3 "PB3/SPI1_SCK,SPI3_SCK/I2S3_CK,I2C2_SDA,TIM2_CH2,JTDO-SWO", 40 PB4 "PB4/SPI1_MISO,SPI3_MISO,I2S3ext_SD,I2C3_SDA,TIM3_CH1,JTRST", 41 PB5 "PB5/SPI1_MOSI,SPI3_MOSI/I2S3_SD,I2C1_SMBAL,TIM3_CH2", 42 PB6 "PB6/I2C1_SCL,USART1_TX,TIM4_CH1", 43 PB7 "PB7/I2C1_SDA,USART1_RX,TIM4_CH2", 44 PH3, 45 PB8 "PB8/I2C1_SCL,TIM4_CH3,TIM10_CH1,SDIO_D4", 46 PB9 "PB9/SPI2_NSS/I2S2_WS,I2C1_SDA,TIM4_CH4,TIM11_CH1,SDIO_D5", 47 VSS, 48 VDD, 49 EP